# Altium schematic symbol library STM32_main_board_1.SCHLIB: 3 symbols
Pins are listed as number, name and electrical type; pins without a type are passive.

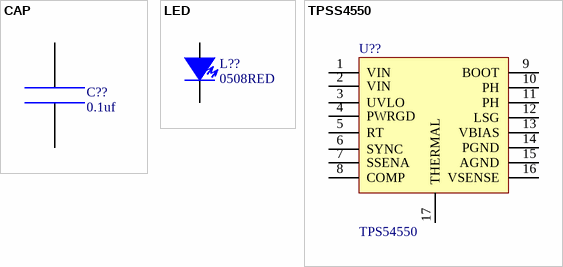
[diagram p0: symbols CAP to TPSS4550]

## CAP
designator C??, comment 0.1uf
footprint 0603C (Footprint not found)
pins: 0, 1

## LED
designator L??, comment 0508RED
footprint 0508RED (Footprint not found)
pins: 2, 3

## TPSS4550
designator U??, comment TPS54550
footprint TPS54550 (Footprint not found)
pins: 1 VIN, 2 VIN, 3 UVLO, 4 PWRGD, 5 RT, 6 SYNC, 7 SSENA, 8 COMP, 9 BOOT, 10 PH, 11 PH, 12 LSG, 13 VBIAS, 14 PGND, 15 AGND, 16 VSENSE, 17 THERMAL